# Altium footprint library PCB - LEADLESS - BGA - EPC EPC2038.PcbLib: 1 footprints
Each footprint in its own frame and in the unit in brackets; x right, y up, seen from the top. Pads: shape width x height; smd on the part's side, far side on the other; paste and mask are expansions set on the pad; w line width, h text height; cw(c..) or ccw(c..) is an arc to the next point about the centre after c.
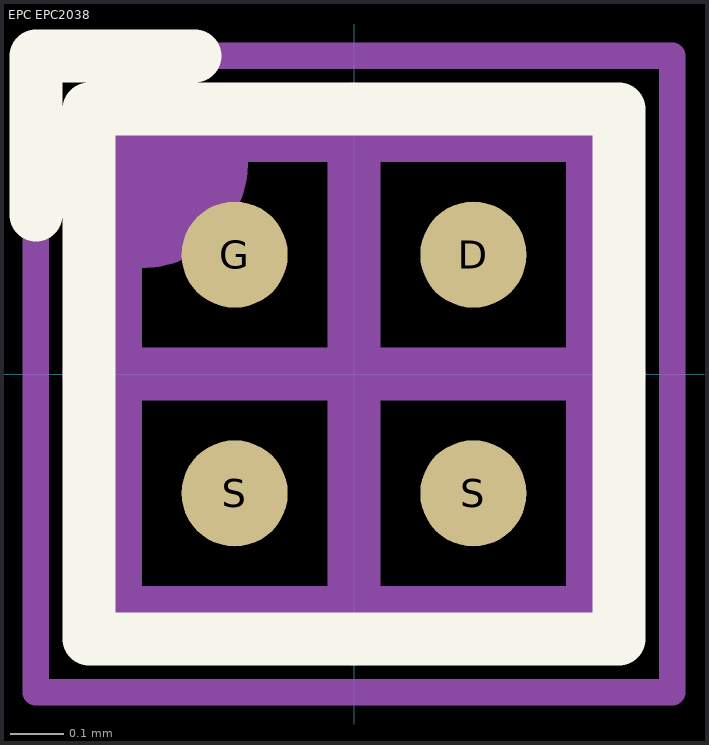
[diagram p0: the footprint, top view; thin cyan lines are the x and y axes]

## EPC EPC2038 [mm] "BGA, 4-Leads, Body 0.90x0.90mmx0.65mm, Pitch 0.40mm"
height 0.65
pads (4):
  round 0.2 smd paste+0 mask-0.01: D(0.225,0.225) G(-0.225,0.225) S(-0.225,-0.225) S(0.225,-0.225)
Top Overlay:
  lines w0.1: -0.6,0.3 -0.6,0.6 -0.3,0.6 ; -0.5,-0.5 -0.5,0.5 0.5,0.5 0.5,-0.5 -0.5,-0.5
Top Paste:
  region: 0.325,0.175 0.325,0.165 0.317,0.147 0.303,0.133 0.285,0.125 0.275,0.125 0.175,0.125 0.165,0.125 0.147,0.133 0.133,0.147 0.125,0.165 0.125,0.175 0.125,0.275 0.125,0.285 0.133,0.303 0.147,0.317 0.165,0.325 0.175,0.325 0.275,0.325 0.285,0.325 0.303,0.317 0.317,0.303 0.325,0.285 0.325,0.275
  region: 0.325,-0.275 0.325,-0.285 0.317,-0.303 0.303,-0.317 0.285,-0.325 0.275,-0.325 0.175,-0.325 0.165,-0.325 0.147,-0.317 0.133,-0.303 0.125,-0.285 0.125,-0.275 0.125,-0.175 0.125,-0.165 0.133,-0.147 0.147,-0.133 0.165,-0.125 0.175,-0.125 0.275,-0.125 0.285,-0.125 0.303,-0.133 0.317,-0.147 0.325,-0.165 0.325,-0.175
  region: -0.125,-0.275 -0.125,-0.285 -0.133,-0.303 -0.147,-0.317 -0.165,-0.325 -0.175,-0.325 -0.275,-0.325 -0.285,-0.325 -0.303,-0.317 -0.317,-0.303 -0.325,-0.285 -0.325,-0.275 -0.325,-0.175 -0.325,-0.165 -0.317,-0.147 -0.303,-0.133 -0.285,-0.125 -0.275,-0.125 -0.175,-0.125 -0.165,-0.125 -0.147,-0.133 -0.133,-0.147 -0.125,-0.165 -0.125,-0.175
  region: -0.125,0.175 -0.125,0.165 -0.133,0.147 -0.147,0.133 -0.165,0.125 -0.175,0.125 -0.275,0.125 -0.285,0.125 -0.303,0.133 -0.317,0.147 -0.325,0.165 -0.325,0.175 -0.325,0.275 -0.325,0.285 -0.317,0.303 -0.303,0.317 -0.285,0.325 -0.275,0.325 -0.175,0.325 -0.165,0.325 -0.147,0.317 -0.133,0.303 -0.125,0.285 -0.125,0.275
Mechanical 13:
  lines w0.1: -0.45,-0.45 -0.45,0.45 0.45,0.45 0.45,-0.45 -0.45,-0.45
  lines w0.2: -0.4,0.3 ccw(c-0.4,0.4) -0.3,0.4
Mechanical 15:
  lines w0.05: -0.6,-0.6 -0.6,0.6 0.6,0.6 0.6,-0.6 -0.6,-0.6
  lines w0.1: -0.5,0 0.5,0 ; 0,-0.5 0,0.5
3D body "EPC EPC2036.step": height 0.65, standoff 0, extent -0.45,-0.45 0.45,0.45